# EAGLE library part TCS3200_2 (library Robotica-IFRN.SC-conectores)
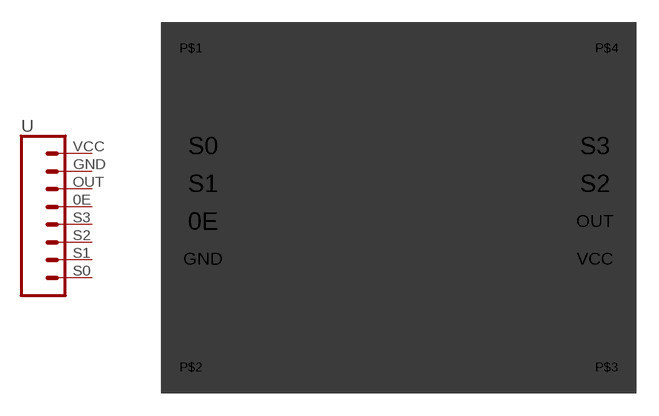
[diagram p65: symbol with the pads of TCS3200_2; footprint TCS3200_2]

Designator prefix -

## TCS3200_2TCS3200_2  [TCS3200_2]
0E  0E  pas
GND  GND  pas
OUT  OUT  pas
S0  S0  pas
S1  S1  pas
S2  S2  pas
S3  S3  pas
VCC  VCC  pas

## Footprint TCS3200_2 (pad centres in mm)
drill 1.118 pad 1.88 long: 0E -4.69,-2.67; GND -4.69,-5.21; OUT 21.71,-2.67; S0 -4.69,2.41; S1 -4.69,-0.13; S2 21.71,-0.13; S3 21.71,2.41; VCC 21.71,-5.21
drill 0.9: P$1 -5.5,9; P$2 -5.5,-12.5; P$3 22.5,-12.5; P$4 22.5,9